# Altium schematic symbol library 6318977-3.SchLib: 1 symbol
Pins are listed as number, name and electrical type; pins without a type are passive.

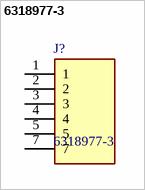
[diagram p0: symbol 6318977-3]

## 6318977-3
designator J?
Board-to-Board, 6 Position, 2.5 mm [.098 in] Centerline, Plug, 30 VDC, Right Angle, Printed Circuit Board, Power & Signal, DC Jack Connectors; Manufacturer_Name: TE Connectivity; Geometry.Height: 4.95mm; Manufacturer_Part_Number: 6318977-3; Mouser Part Number: *; Mouser Price/Stock: *; Arrow Part Number: *; Arrow Price/Stock: *; Datasheet Link: https://www.te.com/commerce/DocumentDelivery/DDEController?Action=srchrtrv&DocNm=6318977&DocType=Customer%20Drawing&DocLang=English&PartCntxt=6318977-3&DocFormat=pdf
footprint 63189773
pins: 1, 2, 3, 4, 5, 7